# Altium schematic symbol library SEMATIK_LIB.SchLib: 632 symbols (part 4 of 21)
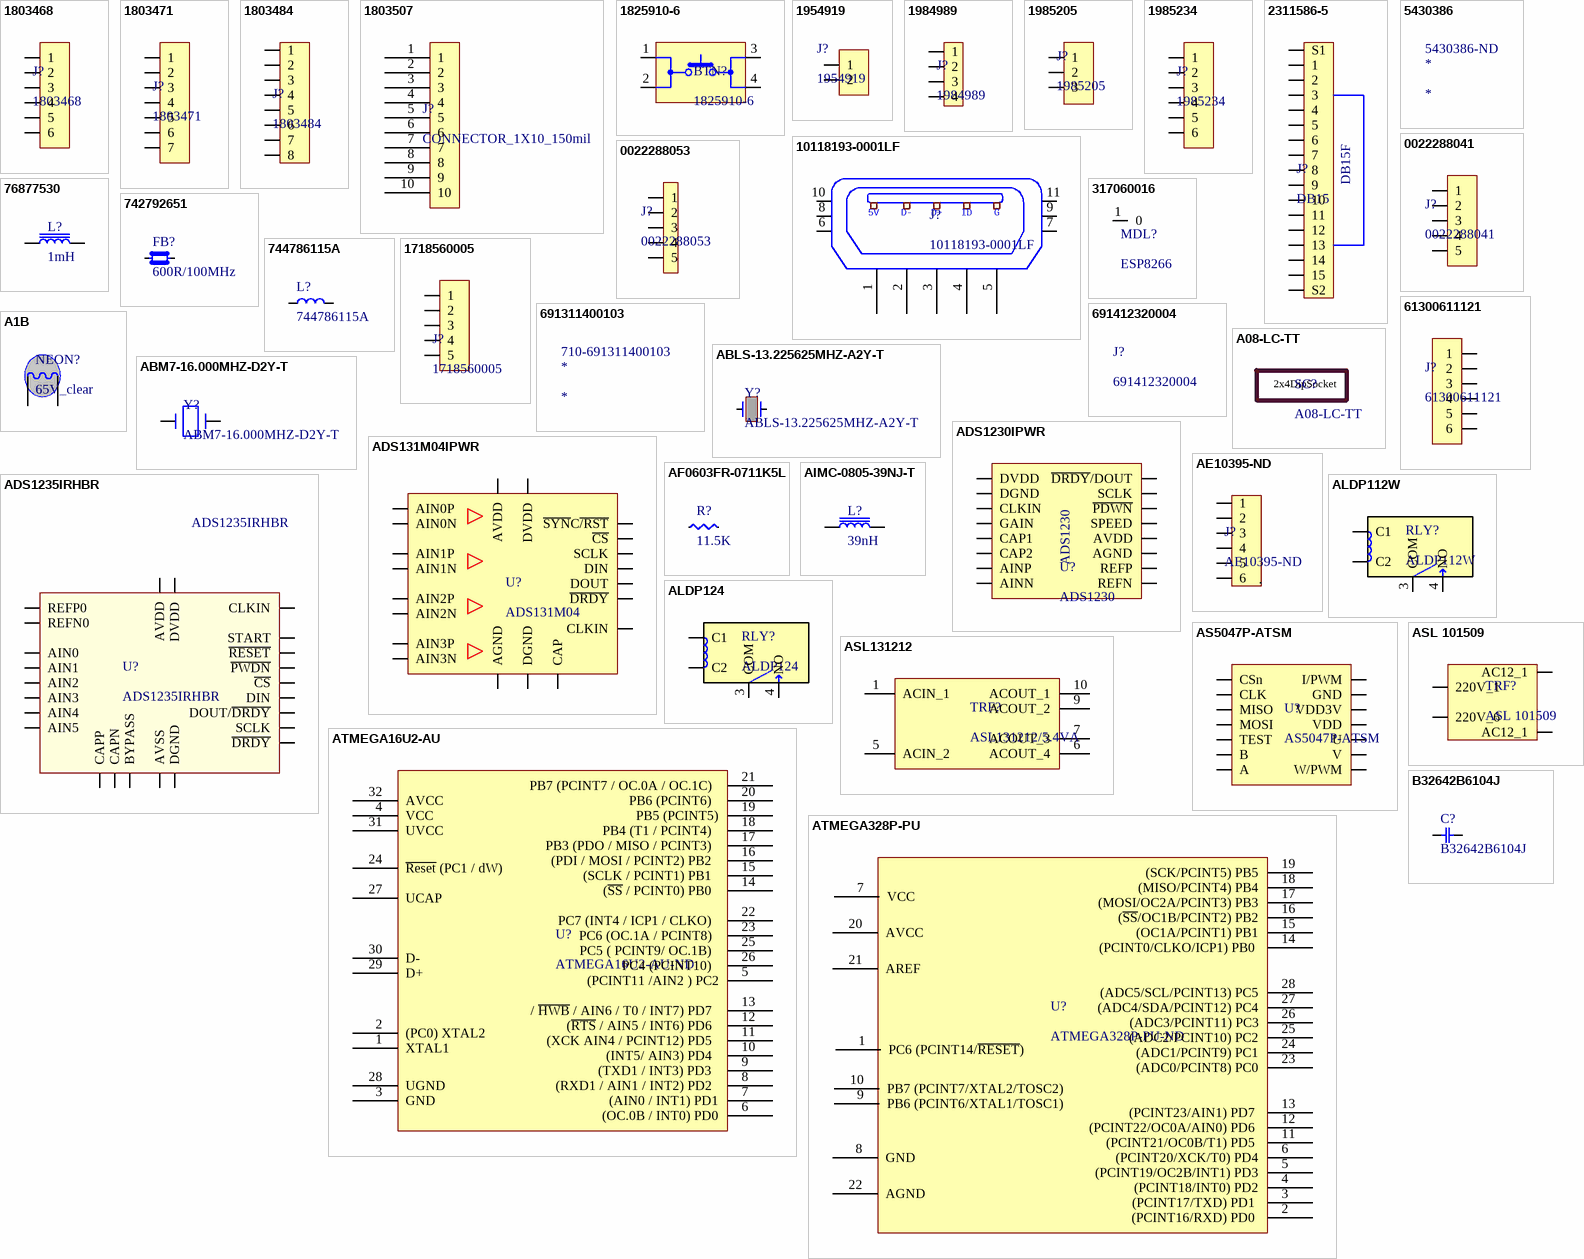
[diagram p19: symbols 1803468 to B32642B6104J]

## 1985234
designator J?
TERM BLOCK 6POS 3.5MM 45DEG PCB SCREWLESS; Manufacturer: Phoenix Contact; Current Rating: 2A; Voltage Rating: 250V; Number of Poles: 6; Number of Levels: 1; Voltage: 300V; Wire Gauge (Max): 24AWG; Wire Gauge (Min): 20AWG; Wire/Cable Gauge: 16AWG; Stripping Length: 8mm; Approvals: UL,VDE; Supplier 1: Digi-Key; Manufacturer Part Number: 1985234; Stock 1: 2152; Pricing 1: 1=0.85, 10=0.809, 50=0.7864, 100=0.735, 250=0.6762, 500=0.62476 (USD); Mount: Through Hole; Weight: 0.116404oz; Color: Green; Material: Nylon; Housing Color: Green; Housing Material: Nylon; Insulation Material: Nylon; Packaging: Bulk; Package Quantity: 100; Max Current Rating: 2A; Number of Positions: 6; Termination: Screwless; Number of Positions Per Level: 6; Current: 2A; Number of Contacts: 6; Number of Circuits: 6; Number of Rows: 1; Length: 12mm; Height: 13.1mm; Width: 17.5mm; Pitch: 3.5mm; Lead Free: Lead Free; Flammability Rating: UL94 V-2; REACH SVHC: Unknown; ComponentLink1URL: https://www.alliedelec.com/m/d/46afd96412b1b8fa400ea99294e4d68a.pdf?src-supplier=Allied+Electronics; ComponentLink1Description: https://www.alliedelec.com/m/d/46afd96412b1b8fa400ea99294e4d68a.pdf?src-supplier=Allied+Electronics; ComponentLink2URL: https://media.digikey.com/pdf/Data%20Sheets/Phoenix%20Contact%20PDFs/COMBICON%20Spring-Cage%20PCB%20Term.%20Blocks.pdf?src-supplier=Digi-Key; ComponentLink2Description: https://media.digikey.com/pdf/Data%20Sheets/Phoenix%20Contact%20PDFs/COMBICON%20Spring-Cage%20PCB%20Term.%20Blocks.pdf?src-supplier=Digi-Key; ComponentLink3URL: https://produktinfo.conrad.com/datenblaetter/725000-749999/744007-da-01-en-PRINTKLEMME_PTSA_1_5__6_3_5_Z.pdf?src-supplier=Conrad; ComponentLink3Description: https://produktinfo.conrad.com/datenblaetter/725000-749999/744007-da-01-en-PRINTKLEMME_PTSA_1_5__6_3_5_Z.pdf?src-supplier=Conrad; Supplier Part Number 1: 277-1626-ND
footprint SOCKET_3.5_1X6_45_SCREWLESS
pins: 1, 2, 3, 4, 5, 6

## 2311586-5
designator J?, comment DB15
CONN DSUB HD RCPT 15POS R/A SLDR; Manufacturer: TE Connectivity AMP; Manufacturer Part Number: 2311586-5; Supplier 1: Digi-Key; Stock 1: 2239; Pricing 1: 1 = 5,76000, 10 = 5,52500, 25 = 5,06480, 50 = 4,83480, 100 = 4,60450, 250 = 4,02896, 500 = 3,91384, 1000 = 3,33828, 2500 = 3,10805 (USD); RoHS: No; Supplier Part Number 1: A144832-ND
footprint HD22
pins: 1, 2, 3, 4, 5, 6, 7, 8, 9, 10, 11, 12, 13, 14, 15, 16 S1, 17 S2
text: DB15F

## 5430386
designator *  Supplier Part Number 1: 5430386-ND
Fixed Terminal Blocks BC-508X14- 2; Manufacturer 1: Phoenix Contact; Manufacturer Part Number 1: 5430386; Number of Levels: 1; Number of Positions Per Level: 2; Current: 15A; Voltage: 300V; Wire Gauge (Max): 30AWG; Wire Gauge (Min): 14AWG; Pitch: 0.2inch; Supplier 1: Digi-Key; Description 1: Fixed Terminal Blocks BC-508X14- 2; Stock 1: 0; Pricing 1: 100=1.113 (USD); Mount: Through Hole; Color: Grey; Housing Material: Nylon; Packaging: Bulk; Package Quantity: 100; Termination: Screw

## 10118193-0001LF
designator J?
CONN USB MICRO B RECPT SMT R/A; Manufacturer: Amphenol FCI; Connector Type: USB - micro B; Number of Contacts: 5; Gender: Receptacle; Specifications: USB 2.0; Current Rating: 1.8A per Contact; Voltage - Rated: 100VAC; Mating Cycles: 10000; Shielding: Shielded; Material Flammability Rating: UL94 V-0; Supplier 1: Digi-Key; Manufacturer Part Number: 10118193-0001LF; RoHS: RoHS Compliant; Category: Connectors, Interconnects; Stock 1: 77747; Pricing 1: 1=0.46, 10=0.437, 25=0.3744, 50=0.318, 100=0.3056, 250=0.27444, 500=0.26196 (USD); Packaging: Cut Tape (CT); Part Status: Active; Mounting Type: Surface Mount, Right Angle; Through Hole; Mounting Feature: Horizontal; Termination: Solder; Features: Solder Retention; Ingress Protection: -; Operating Temperature: -30°C ~ 80°C; Contact Finish: Gold; Shell/Shielding Material: Steel, Stainless; Insulation Color: Black; ComponentLink1URL: http://portal.fciconnect.com/Comergent//fci/drawing/10118193.pdf; ComponentLink1Description: http://portal.fciconnect.com/Comergent//fci/drawing/10118193.pdf; Supplier Part Number 1: 609-4616-1-ND
footprint 10118193-0001LF
pins: 1, 2, 3, 4, 5, 6, 7, 8, 9, 10, 11
text: 5V; D-; D+; ID; G

## 0022288041
designator J?
CONN HEADER 4POS 2.54MM R/A; Manufacturer: Molex; Gender: Male; Voltage Rating (DC): 250V; Number of Circuits: 4; Current Rating: 4A; Connector Type: Male Pin; Pitch: 0.1inch; Glow Wire Compliant: Non-compliant; Supplier 1: Digi-Key; Manufacturer Part Number: 0022288041; Stock 1: 1112; Pricing 1: 1 = 0,34000, 10 = 0,32200, 25 = 0,27640, 50 = 0,23480, 100 = 0,22560, 250 = 0,20256, 500 = 0,19336 (USD); RoHS: Yes; Mount: Through Hole; Housing Color: Black; Color: Black; Contact Material: Brass; Contact Plating: Tin; Housing Material: Thermoplastic; Orientation: Right Angle; Number of Contacts: 4; Number of Positions: 4; Termination: Solder; Package Quantity: 1; Number of Rows: 1; Packaging: Bulk; Voltage Rating: 250V; Contact Mating Length: 0.324inch; Lead Free: Lead Free; Flammability Rating: UL94 V-0; ComponentLink1URL: https://datasheet.ciiva.com/10090/0022288041-pcb-headers-10090135.pdf?src-supplier=Avnet; ComponentLink1Description: https://datasheet.ciiva.com/10090/0022288041-pcb-headers-10090135.pdf?src-supplier=Avnet; ComponentLink2URL: https://datasheet.ciiva.com/6859/022288041-sd-6859126.pdf?src-supplier=Digi-Key; ComponentLink2Description: https://datasheet.ciiva.com/6859/022288041-sd-6859126.pdf?src-supplier=Digi-Key; Supplier Part Number 1: WM50025-04-ND
footprint HDR_MALE_1x5_100mil_90DRC
pins: 1, 2, 3, 4, 5

## 0022288053
designator J?
CONN HEADER 5POS 2.54MM R/A; Manufacturer: Molex; Number of Positions: 5; Gender: Male; Connector Type: Male Pin; Contact Resistance: 20mR; Max Voltage Rating (AC): 250V; Pitch: 0.1inch; Supplier 1: Digi-Key; Manufacturer Part Number: 0022288053; RoHS: Yes; Category: Headers and Wire Housings; Stock 1: 939; Pricing 1: 1=0,44000, 10=0,36000, 100=0,26400 (USD); Mount: Through Hole; Contact Material: Brass; Color: Black; Housing Color: Black; Housing Material: Thermoplastic; Contact Plating: Gold; Min Operating Temperature: 0°C; Max Operating Temperature: 75°C; Packaging: Bulk; Number of Rows: 1; Termination: Solder; Number of Contacts: 5; Orientation: Right Angle; Series: KK® 42377; Contact Type: Male Pin; Length: 12.7mm; Contact Mating Length: 0.324inch; Depth: 12.3mm; RoHS Compliant: Yes; ComponentLink1URL: https://datasheet.ciiva.com/6839/022289022-sd-6839452.pdf?src-supplier=Digi-Key; ComponentLink1Description: https://datasheet.ciiva.com/6839/022289022-sd-6839452.pdf?src-supplier=Digi-Key; Supplier Part Number 1: WM50026-05-ND
pins: 1, 2, 3, 4, 5

## 76877530
designator L?, comment 1mH
FIXED IND mH 1 300MA 3.3 OHM SMD; Manufacturer: Wurth Electronics; Manufacturer Part Number: 76877530; Core Material: Ferrite; Tolerance: 10%; Shielding: Unshielded; DC Resistance (DCR): 3.3R; Self Resonant Frequency: 2.4MHz; Test Frequency: 100kHz; Supplier 1: Digi-Key; Stock 1: 1085; Pricing 1: 1 = 2,22000, 10 = 2,04600, 50 = 1,83500, 100 = 1,76400, 250 = 1,69300 (USD); RoHS: Yes; Mount: Surface Mount; Case/Package: 7850; Min Operating Temperature: -40°C; Max Operating Temperature: 125°C; Saturation Current: 300mA; Packaging: Cut Tape; Package Quantity: 500; Current Rating: 300mA; Inductance Tolerance: 10%; Resistor Type: Wirewound; Inductance: 1mH; Max DC Current: 300mA; Termination: SMD/SMT; RMS Current (Irms): 300mA; Length: 0.307inch; Width: 0.276inch; Height: 5mm; Height - Seated (Max): 0.217inch; REACH SVHC: Unknown; ComponentLink1URL: https://datasheet.ciiva.com/6690/76877530-6690354.pdf?src-supplier=Digi-Key; ComponentLink1Description: https://datasheet.ciiva.com/6690/76877530-6690354.pdf?src-supplier=Digi-Key; ComponentLink2URL: https://datasheet.ciiva.com/13320/76877530-64988-13320676.pdf?src-supplier=Mouser; ComponentLink2Description: https://datasheet.ciiva.com/13320/76877530-64988-13320676.pdf?src-supplier=Mouser; ComponentLink3URL: https://datasheet.ciiva.com/7892/1736809-7892998.pdf?src-supplier=Element14; ComponentLink3Description: https://datasheet.ciiva.com/7892/1736809-7892998.pdf?src-supplier=Element14; ComponentLink4URL: https://datasheet.ciiva.com/7265/1243443-7265530.pdf?src-supplier=Newark; ComponentLink4Description: https://datasheet.ciiva.com/7265/1243443-7265530.pdf?src-supplier=Newark; ComponentLink5URL: https://datasheet.ciiva.com/6690/76877530-6690358.pdf?src-supplier=Digi-Key; ComponentLink5Description: https://datasheet.ciiva.com/6690/76877530-6690358.pdf?src-supplier=Digi-Key; Supplier Part Number 1: 732-3272-6-ND
footprint INDUCTOR_7.8x7.0x5
pins: 1, 2

## 317060016
designator MDL?, comment ESP8266
ESP8266 MOD TXRX WIFI TRACE ANT; Manufacturer: Seeed Studio; Manufacturer Part Number: 317060016; Supplier 1: Digi-Key; Stock 1: 196; Pricing 1: 1 = 7,09000 (USD); RoHS: No; Case/Package: Module; Weight: 0.0625lb; Length: 3.25inch; Width: 2.25inch; Height: 0.25inch; ComponentLink1URL: https://media.digikey.com/pdf/Data%20Sheets/Seeed%20Technology/317060016_Web.pdf?src-supplier=Digi-Key; ComponentLink1Description: https://media.digikey.com/pdf/Data%20Sheets/Seeed%20Technology/317060016_Web.pdf?src-supplier=Digi-Key; Supplier Part Number 1: 1597-1145-ND
pins: 1 0

## 742792651
designator FB?, comment 600R/100MHz
FERRITE BEAD 600 OHM 100MHz 0603 1LN
footprint FERRITEBEAD_0603
pins: 1, 2

## 744786115A
designator L?
High Frequency Inductor, WE-MK Series, 15 nH,  5%, 0603 [1608 Metric], 2.3 GHz; Manufacturer 1: Wurth Electronics; Description 1: WURTH ELEKTRONIK         744786115A            Surface Mount High Frequency Inductor, WE-MK Series, 15 nH,  5%, 0603 [1608 Metric], 2.3 GHz; Core Material: Ceramic; Inductance: 15nH; Current Rating: 500mA; Shielding: Unshielded; DC Resistance (DCR): 500mR; Self Resonant Frequency: 2.3GHz; Test Frequency: 100MHz; Supplier 1: Digi-Key; Manufacturer Part Number 1: 744786115A; Stock 1: 5783; Pricing 1: 1=0.2, 50=0.185, 100=0.174, 500=0.157, 1000=0.134, 2000=0.106 (USD); Mount: Surface Mount; Case/Package: 0603; Case Code (Metric): 1608; Case Code (Imperial): 0603; Min Operating Temperature: -55°C; Max Operating Temperature: 125°C; Inductance Tolerance: 5%; Packaging: Cut Tape; Max DC Current: 500mA; Tolerance: 5%; Length: 0.063inch; Width: 0.031inch; Height - Seated (Max): 0.037inch; REACH SVHC: Unknown; ComponentLink1URL: http://www.farnell.com/datasheets/1818771.pdf?src-supplier=Element14; ComponentLink1Description: http://www.farnell.com/datasheets/1818771.pdf?src-supplier=Element14; ComponentLink2URL: https://katalog.we-online.de/pbs/datasheet/744786115A.pdf?src-supplier=Digi-Key; ComponentLink2Description: https://katalog.we-online.de/pbs/datasheet/744786115A.pdf?src-supplier=Digi-Key; ComponentLink3URL: http://www.farnell.com/datasheets/1818771.pdf?src-supplier=Farnell; ComponentLink3Description: http://www.farnell.com/datasheets/1818771.pdf?src-supplier=Farnell; Supplier Part Number 1: 732-6265-1-ND
footprint R_0603
pins: 1, 2

## 1718560005
designator J?
RECEPTACLE PCB 5POS 2.54mm MALE 180DEG; Manufacturer 1: Molex; Description 1: Headers & Wire Housings KK Hdr Vrt 5 Ckt 2.54mm Pitch Sn; Current Rating: 4A; Voltage Rating: 250V; Number of Positions: 5; Connector Type: Male Pin; Contact Post Length: 2.34mm; Glow Wire Compliant: Compliant; Supplier 1: Digi-Key; Manufacturer Part Number 1: 1718560005; Stock 1: 10042; Pricing 1: 1=0.45, 10=0.425, 100=0.2972, 500=0.25474, 1000=0.21228, 5000=0.18195, 10000=0.16982 (USD); Mount: Through Hole; Weight: 0.02oz; Color: Black; Contact Plating: Tin; Contact Material: Brass; Housing Material: Nylon; Min Operating Temperature: -40°C; Max Operating Temperature: 105°C; Fastening Type: Friction; Number of Rows: 1; Contact Gender: Male; Packaging: Bulk; Package Quantity: 2000; Termination: Solder; Orientation: Vertical; Number of Circuits: 5; Pitch: 2.54mm; Contact Mating Length: 0.293inch; Halogen Free: Low Halogen; Flammability Rating: UL94 V-2; ComponentLink1URL: https://media.digikey.com/pdf/Data%20Sheets/Molex%20PDFs/171856,57_Brief.pdf?src-supplier=Digi-Key; ComponentLink1Description: https://media.digikey.com/pdf/Data%20Sheets/Molex%20PDFs/171856,57_Brief.pdf?src-supplier=Digi-Key; ComponentLink2URL: http://www.mouser.com/ds/2/276/1718560005_PCB_HEADERS-295428.pdf?src-supplier=Mouser; ComponentLink2Description: http://www.mouser.com/ds/2/276/1718560005_PCB_HEADERS-295428.pdf?src-supplier=Mouser; Supplier Part Number 1: WM10183-ND
footprint 1x5_100mil_Header_programmer_no3d
pins: 1, 2, 3, 4, 5

## 61300611121
designator J?
CONN HEADER 6POS 2.54MM VERT; Manufacturer: Wurth Electronics; Current Rating: 3A; Voltage Rating: 250V; Number of Positions: 6; Gender: Male; Connector Type: Male Pin; Pitch: 0.1inch; Supplier 1: Digi-Key; Manufacturer Part Number: 61300611121; Stock 1: 20332; Pricing 1: 1 = 0,33000, 10 = 0,27900, 25 = 0,23200, 50 = 0,19400, 100 = 0,17600, 1000 = 0,16000 (USD); RoHS: Yes; Mount: Through Hole; Contact Plating: Gold; Contact Material: Copper Alloy,Copper; Housing Material: PBT; Color: Black; Min Operating Temperature: -40°C; Max Operating Temperature: 125°C; Number of Rows: 1; Contact Gender: Male; Packaging: Bulk; Termination: Through Hole; Number of Contacts: 6; Contact Mating Length: 0.236inch; REACH SVHC: Unknown; Lead Free: Lead Free; ComponentLink1URL: http://www.mouser.com/ds/2/445/6130xx11121-538006.pdf?src-supplier=Mouser; ComponentLink1Description: http://www.mouser.com/ds/2/445/6130xx11121-538006.pdf?src-supplier=Mouser; ComponentLink2URL: https://katalog.we-online.de/em/datasheet/6130xx11121.pdf?src-supplier=Digi-Key; ComponentLink2Description: https://katalog.we-online.de/em/datasheet/6130xx11121.pdf?src-supplier=Digi-Key; ComponentLink3URL: http://www.farnell.com/cad/1737268.pdf?src-supplier=Element14; ComponentLink3Description: http://www.farnell.com/cad/1737268.pdf?src-supplier=Element14; Supplier Part Number 1: 732-5319-ND
footprint HDR_MALE_1x6_100mil
pins: 1, 2, 3, 4, 5, 6

## 691311400103
designator *  Supplier Part Number 1: 710-691311400103
7.62mm Pitch Straight Pluggable Term Block; PCB Header; Through Hole; 3 Way; Manufacturer: Würth Elektronik; Manufacturer Part Number 1: 691311400103; Number of Contacts: 3; Number of Levels: 1; Current: 20A; Voltage: 300V; Pitch: 0.3inch; Supplier 1: Mouser; Description 1: 7.62mm Pitch Straight Pluggable Term Block; PCB Header; Through Hole; 3 Way; Stock 1: 464; Pricing 1: 1 = 0,69000, 10 = 0,61600, 50 = 0,53200, 100 = 0,47600, 1000 = 0,39900, 10000 = 0,39900 (USD); Mount: Through Hole; Color: Green; Contact Material: Brass; Package Quantity: 300; Termination: Solder; Packaging: Bulk; Number of Positions Per Level: 3; Number of Rows: 1; Orientation: Vertical; Length: 8.5mm; Height: 16mm; Width: 22.86mm; REACH SVHC: Unknown; ComponentLink1URL: http://www.produktinfo.conrad.com/datenblaetter/1000000-1099999/001088632-da-01-en-WR_TBL_TERMINAL_BLOCK3114_691311400103.pdf; ComponentLink1Description: http://www.produktinfo.conrad.com/datenblaetter/1000000-1099999/001088632-da-01-en-WR_TBL_TERMINAL_BLOCK3114_691311400103.pdf; ComponentLink2URL: http://datasheet.octopart.com/691311400103-W%C3%BCrth-Elektronik-Midcom-datasheet-10403950.pdf; ComponentLink2Description: http://datasheet.octopart.com/691311400103-W%C3%BCrth-Elektronik-Midcom-datasheet-10403950.pdf; ComponentLink3URL: http://datasheet.octopart.com/691311400103-W%C3%BCrth-Elektronik-datasheet-12532410.pdf; ComponentLink3Description: http://datasheet.octopart.com/691311400103-W%C3%BCrth-Elektronik-datasheet-12532410.pdf; ComponentLink4URL: http://datasheet.octopart.com/691311400103-W%C3%BCrth-Elektronik-Midcom-datasheet-10380140.pdf; ComponentLink4Description: http://datasheet.octopart.com/691311400103-W%C3%BCrth-Elektronik-Midcom-datasheet-10380140.pdf

## 691412320004
designator J?
TERM BLOCK 4POS 45DEG 3.81MM; Manufacturer 1: Wurth Electronics; Supplier 1: Digi-Key; Manufacturer Part Number 1: 691412320004; Stock 1: 213; Pricing 1: 1=1.22, 10=1.07, 50=0.97, 100=0.87, 500=0.82 (USD); Supplier Part Number 1: 732-11129-ND

## A1B
designator NEON?, comment 65V_clear
LAMP NEON R6.2MM WIR 65VAC 90VDC; Manufacturer: VCC CHML; Manufacturer Part Number: A1B; Lens Color: Clear; Voltage Rating (DC): 90V; Current Rating: 300uA; Voltage Rating (AC): 65V; Lead/Base Style: Wire Terminal; Life (Hours): 25000Hour; Power Rating: 250mW; Supplier 1: Digi-Key; Stock 1: 6365; Pricing 1: 1 = 0,72000, 10 = 0,47500, 100 = 0,31390, 1000 = 0,24236, 2000 = 0,21900, 5000 = 0,20440, 10000 = 0,19710, 25000 = 0,19418 (USD); RoHS: Yes; Case/Package: 100; Color: Clear; Package Quantity: 200; Packaging: Bulk; Operating Supply Current: 300uA; Length: 0.5inch; REACH SVHC: Unknown; ComponentLink1URL: https://datasheet.ciiva.com/24361/neon20indicator20lamps-7-8-24361296.pdf?src-supplier=Onlinecomponents.com; ComponentLink1Description: https://datasheet.ciiva.com/24361/neon20indicator20lamps-7-8-24361296.pdf?src-supplier=Onlinecomponents.com; ComponentLink2URL: https://datasheet.ciiva.com/6354/neonindicatorlamps-7-8-6354586.pdf?src-supplier=Digi-Key; ComponentLink2Description: https://datasheet.ciiva.com/6354/neonindicatorlamps-7-8-6354586.pdf?src-supplier=Digi-Key; Supplier Part Number 1: A1B-ND
footprint NEON_LAMB_65V
pins: 1, 2

## A08-LC-TT
designator SC?
CONN IC DIP SOCKET 8POS TIN; Manufacturer 1: Assmann; Description 1: ASSMANN WSW 2.54mm Pitch Vertical 8 Way, Through Hole Stamped Pin Open Frame IC Dip Socket, 1A; Current Rating: 1A; Contact Resistance: 30mR; Voltage Rating: 60V; Number of Contacts: 8; Insulation Resistance: 1GR; Contact Post Length: 0.124inch; Pitch: 2.54mm; Row Spacing: 7.62mm; Supplier 1: Digi-Key; Manufacturer Part Number 1: A08-LC-TT; Stock 1: 38371; Pricing 1: 1=0.18, 10=0.173, 25=0.1472, 60=0.12883, 120=0.11958, 300=0.1058, 540=0.1012, 1020=0.0828, 2520=0.0759 (USD); Mount: Through Hole; Number of Pins: 8; Housing Material: PBT; Contact Material: Bronze; Contact Plating: Tin; Material: PBT; Insulation Material: Polybutylene; Min Operating Temperature: -55°C; Max Operating Temperature: 85°C; Package Quantity: 60; Packaging: Rail/Tube; Number of Rows: 2; Termination: Solder; Orientation: Straight; Length: 10.16mm; Width: 10.16mm; Depth: 9.96mm; Radiation Hardening: No; Lead Free: Lead Free; Flammability Rating: UL94 V-0; ComponentLink1URL: http://www.assmann-wsw.com/fileadmin/datasheets/ASS_0810_CO.pdf?src-supplier=Digi-Key; ComponentLink1Description: http://www.assmann-wsw.com/fileadmin/datasheets/ASS_0810_CO.pdf?src-supplier=Digi-Key; ComponentLink2URL: https://www.verical.com/server-webapp/html/getDatasheet?partID=755679&src-supplier=Verical; ComponentLink2Description: https://www.verical.com/server-webapp/html/getDatasheet?partID=755679&src-supplier=Verical; ComponentLink3URL: https://produktinfo.conrad.com/datenblaetter/175000-199999/183799-da-01-en-ST_IC_FASSUNG_8POL_7_62A_08_LC_TT.pdf?src-supplier=Conrad; ComponentLink3Description: https://produktinfo.conrad.com/datenblaetter/175000-199999/183799-da-01-en-ST_IC_FASSUNG_8POL_7_62A_08_LC_TT.pdf?src-supplier=Conrad; Supplier Part Number 1: AE9986-ND
text: 2x4DipSocket

## ABLS-13.225625MHZ-A2Y-T
designator Y?
CRYSTAL 13.225625MHZ 18PF SMD; Manufacturer 1: Abracon; ESR (Equivalent Series Resistance): 50R; Frequency Stability: 30ppm; Frequency Tolerance: 20ppm; Supplier 1: Digi-Key; Manufacturer Part Number 1: ABLS-13.225625MHZ-A2Y-T; Description 1: CRYSTAL 13.225625MHZ 18PF SMD; Stock 1: 555; Pricing 1: 1=0.69, 10=0.607, 50=0.5676, 100=0.5016, 500=0.4752 (USD); Mount: Surface Mount; Min Operating Temperature: -10°C; Max Operating Temperature: 60°C; Packaging: Tape and Reel; Frequency: 13.225625MHz; Load Capacitance: 18pF; Length: 0.449inch; Height: 0.165inch; Width: 0.185inch; Lead Free: Lead Free; ComponentLink1URL: http://www.abracon.com/Resonators/abls.pdf?src-supplier=Digi-Key; ComponentLink1Description: http://www.abracon.com/Resonators/abls.pdf?src-supplier=Digi-Key; Supplier Part Number 1: 535-13434-1-ND
footprint ABLS_13.255
pins: 1, 2

## ABM7-16.000MHZ-D2Y-T
designator Y?
CRYSTAL 16.0000MHZ 18PF SMD; Manufacturer: Abracon LLC; Frequency Stability: ±30ppm; Frequency Tolerance: ±20ppm; Operating Mode: Fundamental; Supplier 1: Digi-Key; Manufacturer Part Number: ABM7-16.000MHZ-D2Y-T; RoHS: RoHS Compliant; Category: Crystals, Oscillators, Resonators; Stock 1: 19215; Pricing 1: 1=0.72, 10=0.633, 50=0.5912, 100=0.5225, 500=0.495 (USD); Packaging: Cut Tape (CT); Part Status: Active; Type: MHz Crystal; Load Capacitance: 18pF; Operating Temperature: -40°C ~ 85°C; Ratings: -; Mounting Type: Surface Mount; Package / Case: 2-SMD, No Lead; Size / Dimension: 0.236" L x 0.138" W (6.00mm x 3.50mm); Height - Seated (Max): 0.055" (1.40mm); ComponentLink1URL: http://www.abracon.com/Resonators/abm7.pdf; ComponentLink1Description: http://www.abracon.com/Resonators/abm7.pdf; Supplier Part Number 1: 535-9840-1-ND
footprint ABM7_v1_1_BIG
pins: 1, 2

## ADS131M04IPWR
designator U?, comment ADS131M04
IC ADC 24BIT SIGMA-DELTA 20TSSOP; Manufacturer: Texas Instruments; Manufacturer Part Number: ADS131M04IPWR; Manufacturer Lifecycle Status: ACTIVE; Interface: SPI; Max Junction Temperature (Tj): 150°C; Max Supply Voltage: 3.6V; Min Supply Voltage: 2.7V; Number of Channels: 4; Sampling Rate: 32ksps; Supplier: Mouser; Supplier Part Number: 595-ADS131M04IPWR; RoHS: Compliant; Category: Analog to Digital Converters (ADCs); Stock: 5037; Pricing: 1=6, 10=4,59, 50=4,24, 100=3,86, 1000=3,47, 10000=3,38 (USD); Ambient Temperature Range High: 125°C; Case/Package: TSSOP; Height: 0m; Length: 6.5mm; Lifecycle Status: Production; Max Operating Temperature: 125°C; Min Operating Temperature: -40°C; Number of Converters: 4; Pins: 20; Thickness: 1mm; Width: 4.4mm; ComponentLink1URL: https://sigma.octopart.com:443/157851284/technical_drawing/Texas-Instruments-ADS131M04IPWR.pdf?src-supplier=Texas+Instruments; ComponentLink1Description: https://sigma.octopart.com:443/157851284/technical_drawing/Texas-Instruments-ADS131M04IPWR.pdf?src-supplier=Texas+Instruments; ComponentLink2URL: https://octopart.com:443/opatz8j6/c1?t=MGkJAgdv2a6X8tMdF6DoPMtBtZTgvBnIfCFzCsejiKS2VOFUDMoXqX6zH7fz-_6HVmkb5Hy437gbVtwPXcrkVv7PYQVgBdyWJ_9SqMirpyVN7uMFsqcdZ-YwDLD24xVyOtSQNNpNIjZxwE2if3VpQgoSBc756CdZMFsN543ovgtzlW11Bp39eVl8j6vDT4g1klXr3w6VK7D9w7k04t_Wy7AZQ0qz8DYpPmMXKfPLO0wK2QYEvXNQqxeHdKx9q8hAHoK8AG6MF1yGoBfNHQz-DBthm0OducbygS_G0odVQGiVOqntu8Tpzv9UFTdqC1d42Zh0yGtBnbAYKdScfUZG-SzOL7Xvd0AE338erXJaqcoCMcp0y0MgSeMk0aegRcjqY3OVij0x2A&src-supplier=Texas+Instruments; ComponentLink2Description: https://octopart.com:443/opatz8j6/c1?t=MGkJAgdv2a6X8tMdF6DoPMtBtZTgvBnIfCFzCsejiKS2VOFUDMoXqX6zH7fz-_6HVmkb5Hy437gbVtwPXcrkVv7PYQVgBdyWJ_9SqMirpyVN7uMFsqcdZ-YwDLD24xVyOtSQNNpNIjZxwE2if3VpQgoSBc756CdZMFsN543ovgtzlW11Bp39eVl8j6vDT4g1klXr3w6VK7D9w7k04t_Wy7AZQ0qz8DYpPmMXKfPLO0wK2QYEvXNQqxeHdKx9q8hAHoK8AG6MF1yGoBfNHQz-DBthm0OducbygS_G0odVQGiVOqntu8Tpzv9UFTdqC1d42Zh0yGtBnbAYKdScfUZG-SzOL7Xvd0AE338erXJaqcoCMcp0y0MgSeMk0aegRcjqY3OVij0x2A&src-supplier=Texas+Instruments; ComponentLink3URL: https://sigma.octopart.com:443/49249835/technical_drawing/Texas-Instruments-ADS131M04IPWR.pdf?src-supplier=Texas+Instruments; ComponentLink3Description: https://sigma.octopart.com:443/49249835/technical_drawing/Texas-Instruments-ADS131M04IPWR.pdf?src-supplier=Texas+Instruments; ComponentLink4URL: https://datasheet.octopart.com:443/ADS131M04IPWR-Texas-Instruments-datasheet-153505846.pdf?src-supplier=Upverter; ComponentLink4Description: https://datasheet.octopart.com:443/ADS131M04IPWR-Texas-Instruments-datasheet-153505846.pdf?src-supplier=Upverter; ComponentLink5URL: https://datasheet.octopart.com:443/ADS131M04IPWR-Texas-Instruments-datasheet-163736063.pdf?src-supplier=LCSC; ComponentLink5Description: https://datasheet.octopart.com:443/ADS131M04IPWR-Texas-Instruments-datasheet-163736063.pdf?src-supplier=LCSC; ComponentLink6URL: http://sigma.octopart.com:80/conflict_mineral_statement/Texas-Instruments-company-63.pdf?src-supplier=Compliance+Statements; ComponentLink6Description: http://sigma.octopart.com:80/conflict_mineral_statement/Texas-Instruments-company-63.pdf?src-supplier=Compliance+Statements; ComponentLink7URL: http://sigma.octopart.com:80/reach_statement/Texas-Instruments-company-64.pdf?src-supplier=Compliance+Statements; ComponentLink7Description: http://sigma.octopart.com:80/reach_statement/Texas-Instruments-company-64.pdf?src-supplier=Compliance+Statements
footprint TSSOP20
pins: 1 AVDD, 2 AGND, 3 AIN0P, 4 AIN0N, 5 AIN1P, 6 AIN1N, 7 AIN2P, 8 AIN2N, 9 AIN3P, 10 AIN3N, 11 ~{SYN}C~{/RST}, 12 ~{CS}, 13 ~{DRDY}, 14 SCLK, 15 DOUT, 16 DIN, 17 CLKIN, 18 CAP, 19 DGND, 20 DVDD

## ADS1230IPWR
designator U?, comment ADS1230
IC ADC 20BIT SIGMA-DELTA 16TSSOP; Manufacturer: Texas Instruments; Manufacturer Part Number: ADS1230IPWR; Interface: SPI; Number of Inputs: 1; Power Consumption: 2.9mW; Operating Supply Voltage: 5V; Min Supply Voltage: 2.7V; Max Supply Voltage: 5.3V; Max Power Dissipation: 7.7mW; Number of Bits: 20; Sampling Rate: 80S/s; Resolution: 20b; Polarity: Bipolar; Conversion Rate: 0.08KS/s; Nominal Supply Current: 900uA; Supply Type: Analog,Digital; Differential Nonlinearity: 1LSB; Input Type: DIFFERENTIAL; Supplier 1: Digi-Key; RoHS: Yes; Category: Analog to Digital Converters (ADCs); Stock 1: 3976; Pricing 1: 1=7,21000, 10=6,50900, 25=6,20600, 100=5,38870, 250=5,14652, 500=4,69240, 1000=4,28400 (USD); Mount: Surface Mount; Case/Package: TSSOP; Number of Pins: 16; Contact Plating: Gold; Min Operating Temperature: -40°C; Max Operating Temperature: 85°C; Packaging: Tape and Reel; Package Quantity: 2000; Number of Channels: 1; Number of A/D Converters: 1; Number of Converters: 1; Number of Elements: 1; Power Dissipation: 7.7mW; Number of Analog Inputs: 1; Lead Free: Lead Free; RoHS Compliant: Yes; ComponentLink1URL: https://datasheet.ciiva.com/41461/001186708-da-01-en-ic-adc-20-bit-1-ads1230ipwr-tssop-16-tid-41461050.pdf?src-supplier=Conrad; ComponentLink1Description: https://datasheet.ciiva.com/41461/001186708-da-01-en-ic-adc-20-bit-1-ads1230ipwr-tssop-16-tid-41461050.pdf?src-supplier=Conrad; ComponentLink2URL: https://datasheet.ciiva.com/1260/ads1230-1260781.pdf?src-supplier=Digi-Key; ComponentLink2Description: https://datasheet.ciiva.com/1260/ads1230-1260781.pdf?src-supplier=Digi-Key; ComponentLink3URL: https://datasheet.ciiva.com/1260/ads1230-1260780.pdf?src-supplier=Digi-Key; ComponentLink3Description: https://datasheet.ciiva.com/1260/ads1230-1260780.pdf?src-supplier=Digi-Key; ComponentLink4URL: https://datasheet.ciiva.com/1260/ads1230-1260782.pdf?src-supplier=Digi-Key; ComponentLink4Description: https://datasheet.ciiva.com/1260/ads1230-1260782.pdf?src-supplier=Digi-Key; ComponentLink5URL: https://datasheet.ciiva.com/4778/ads1231-4778013.pdf?src-supplier=Mouser; ComponentLink5Description: https://datasheet.ciiva.com/4778/ads1231-4778013.pdf?src-supplier=Mouser; ComponentLink6URL: https://datasheet.ciiva.com/3038/sbas366b-3038731.pdf?src-supplier=Avnet; ComponentLink6Description: https://datasheet.ciiva.com/3038/sbas366b-3038731.pdf?src-supplier=Avnet; Supplier Part Number 1: 296-25893-1-ND
footprint TSSOP16
pins: 1 DVDD, 2 DGND, 3 CLKIN, 4 GAIN, 5 CAP1, 6 CAP2, 7 AINP, 8 AINN, 9 REFN, 10 REFP, 11 AGND, 12 AVDD, 13 SPEED, 14 ~{PDWN}, 15 SCLK, 16 ~{DRDY}/DOUT

## ADS1235IRHBR
designator U?
IC ADC 24BIT SIGMA-DELTA 32VQFNP; Manufacturer: Texas Instruments; Manufacturer Lifecycle Status: ACTIVE; Supplier: Arrow Electronics; Manufacturer Part Number: ADS1235IRHBR; RoHS: Compliant; Category: Analog to Digital Converters (ADCs); Pricing: 3000=7,612, 6000=7,573, 9000=7,534, 12000=7,494, 15000=7,454, 21000=7,414, 24000=7,373, 30000=7,332, 75000=7,29 (USD); Case/Package: VQFN; Height: 1mm; Length: 5mm; Lifecycle Status: Production; Pins: 32; Thickness: 900µm; Width: 5mm; ComponentLink1URL: https://sigma.octopart.com:443/49249790/technical_drawing/Texas-Instruments-ADS1235IRHBR.pdf?src-supplier=Texas+Instruments; ComponentLink1Description: https://sigma.octopart.com:443/49249790/technical_drawing/Texas-Instruments-ADS1235IRHBR.pdf?src-supplier=Texas+Instruments; ComponentLink2URL: https://octopart.com:443/opatz8j6/c1?t=DtFcpm4d2nEQSjAYwv4gVjbpGTDZtjuSPgYXexlHLKEAp0bpq-Orc6F0FdzxJDoa-NfwrvtuG3wAMBSdHv0ZM3wdi2UfMPaAbzSeYt57c21kV7D5oR7FcMWhr0bLoIHxOeLusEEsBrEJOgbktnUu5o5PDdmCssc4splnif4udxiU1w9yld5mkRevmNoFQm6oIYPn_9Vr_D_DHYu576d6rfL9qNVOx0PQY37jZkR_WJyxFM5NGKAc25V7W8AYaus4jS64kfdyfJs-76MrxudrAnc9fNsiUBNvZtoe9jyhvNfgke1tnsikqtNtiZjT5Uii6QNt9EBJzoiwUxxdeLRPEiFRDOJDI14tDAOTzCUk09mBVgn_VRU2RjJTAFTAOvaJH8NQEg&src-supplier=Texas+Instruments; ComponentLink2Description: https://octopart.com:443/opatz8j6/c1?t=DtFcpm4d2nEQSjAYwv4gVjbpGTDZtjuSPgYXexlHLKEAp0bpq-Orc6F0FdzxJDoa-NfwrvtuG3wAMBSdHv0ZM3wdi2UfMPaAbzSeYt57c21kV7D5oR7FcMWhr0bLoIHxOeLusEEsBrEJOgbktnUu5o5PDdmCssc4splnif4udxiU1w9yld5mkRevmNoFQm6oIYPn_9Vr_D_DHYu576d6rfL9qNVOx0PQY37jZkR_WJyxFM5NGKAc25V7W8AYaus4jS64kfdyfJs-76MrxudrAnc9fNsiUBNvZtoe9jyhvNfgke1tnsikqtNtiZjT5Uii6QNt9EBJzoiwUxxdeLRPEiFRDOJDI14tDAOTzCUk09mBVgn_VRU2RjJTAFTAOvaJH8NQEg&src-supplier=Texas+Instruments; ComponentLink3URL: https://datasheet.octopart.com:443/ADS1235IRHBR-Texas-Instruments-datasheet-163657433.pdf?src-supplier=SHENGYU+ELECTRONICS; ComponentLink3Description: https://datasheet.octopart.com:443/ADS1235IRHBR-Texas-Instruments-datasheet-163657433.pdf?src-supplier=SHENGYU+ELECTRONICS; ComponentLink4URL: http://sigma.octopart.com:80/conflict_mineral_statement/Texas-Instruments-company-63.pdf?src-supplier=Compliance+Statements; ComponentLink4Description: http://sigma.octopart.com:80/conflict_mineral_statement/Texas-Instruments-company-63.pdf?src-supplier=Compliance+Statements; ComponentLink5URL: http://sigma.octopart.com:80/reach_statement/Texas-Instruments-company-64.pdf?src-supplier=Compliance+Statements; ComponentLink5Description: http://sigma.octopart.com:80/reach_statement/Texas-Instruments-company-64.pdf?src-supplier=Compliance+Statements; Supplier Part Number: ADS1235IRHBR
footprint VQFN-32-5x5
pins: 2 CAPP, 3 CAPN, 4 AVDD, 5 AVSS, 7 ~{PWDN}, 8 ~{RESET}, 9 START, 10 ~{CS}, 11 SCLK, 12 DIN, 13 ~{DRDY}, 14 DOUT/~{DRDY}, 15 BYPASS, 16 DGND, 17 DVDD, 18 CLKIN, 25 AIN5, 26 AIN4, 27 AIN3, 28 AIN2, 29 AIN1, 30 AIN0, 31 REFN0, 32 REFP0

## AE10395-ND
designator J?
CONN MOD JACK 6P6C VERT UNSHLD; Manufacturer: Assmann; Manufacturer Part Number: A-2014-1-4-N-T-R; Max Current Rating: 1.5A; Max Voltage Rating (AC): 120V; Shielding: Unshielded; Number of Ports: 1; Number of Contacts: 6; Gender: Female; Direction: User Selectable; Pitch: 2.54mm; Supplier 1: Digi-Key; Stock 1: 32247; Pricing 1: 1=0.65, 10=0.606, 25=0.5456, 50=0.4848, 110=0.46464, 330=0.42421, 550=0.404, 1100=0.3333, 2530=0.303 (USD); Mount: Through Hole; Contact Material: Bronze; Housing Material: PBT; Contact Plating: Gold; Min Operating Temperature: -40°C; Max Operating Temperature: 85°C; Package Quantity: 110; Number of Rows: 1; Packaging: Tray; Termination: Solder; Orientation: Vertical; Connector Type: Jack; Lead Free: Lead Free; ComponentLink1URL: http://www.assmann.us/specs/A-2014-1-4-N-T-R.pdf?src-supplier=Future+Electronics; ComponentLink1Description: http://www.assmann.us/specs/A-2014-1-4-N-T-R.pdf?src-supplier=Future+Electronics; ComponentLink2URL: http://www.assmann-wsw.com/fileadmin/datasheets/ASS_7328_CO.pdf?src-supplier=Digi-Key; ComponentLink2Description: http://www.assmann-wsw.com/fileadmin/datasheets/ASS_7328_CO.pdf?src-supplier=Digi-Key; Supplier Part Number 1: AE10395-ND
footprint RJ12_Jack_180DRC
pins: 1, 2, 3, 4, 5, 6, 7

## AF0603FR-0711K5L
designator R?, comment 11.5K
RES SMD 11.5K OHM 1% 1/10W 0603; Manufacturer: Yageo Group; Manufacturer Part Number: AF0603FR-0711K5L; Max Power Dissipation: 100mW; Value: 11.5kΩ; Temperature Coefficient: 100ppm/°C; Voltage Rating: 75V; Supplier: Arrow Electronics; Supplier Part Number: AF0603FR-0711K5L; RoHS: Compliant; Category: Chip SMD Resistors; Pricing: 5000=0,0042, 10000=0,004, 20000=0,004, 40000=0,004, 100000=0,004 (USD); Case/Package: 0603; China RoHS: Non-Compliant; Composition: Thick Film; Features: Anti-Sulfur, Moisture Resistant; Height: 450µm; Length: 1.6002mm; Lifecycle Status: Production; Max Operating Temperature: 155°C; Min Operating Temperature: -55°C; Mounting Technology: Surface Mount; Number of Terminals: 2; Number of Terminations: 2; Packaging: Tape & Reel; Power Dissipation: 100mW; Power Rating: 100mW; REACH SVHC: Yes; Tolerance: 1%; Width: 800µm; Working Voltage: 75V; ComponentLink1URL: https://datasheet.octopart.com:443/AF0603FR-0711K5L-Yageo-datasheet-182189395.pdf?src-supplier=IHS; ComponentLink1Description: https://datasheet.octopart.com:443/AF0603FR-0711K5L-Yageo-datasheet-182189395.pdf?src-supplier=IHS; ComponentLink2URL: https://datasheet.octopart.com:443/AF0603FR-0711K5L-Yageo-datasheet-153645569.pdf?src-supplier=Upverter; ComponentLink2Description: https://datasheet.octopart.com:443/AF0603FR-0711K5L-Yageo-datasheet-153645569.pdf?src-supplier=Upverter; ComponentLink3URL: https://sigma.octopart.com:443/138820526/technical_drawing/Yageo-AF0603FR-0711K5L.pdf?src-supplier=Upverter; ComponentLink3Description: https://sigma.octopart.com:443/138820526/technical_drawing/Yageo-AF0603FR-0711K5L.pdf?src-supplier=Upverter; ComponentLink4URL: https://datasheet.octopart.com:443/AF0603FR-0711K5L-Yageo-datasheet-68296209.pdf?src-supplier=Future+Electronics; ComponentLink4Description: https://datasheet.octopart.com:443/AF0603FR-0711K5L-Yageo-datasheet-68296209.pdf?src-supplier=Future+Electronics; ComponentLink5URL: https://datasheet.octopart.com:443/AF0603FR-0711K5L-Yageo-datasheet-164730775.pdf?src-supplier=Future+Electronics; ComponentLink5Description: https://datasheet.octopart.com:443/AF0603FR-0711K5L-Yageo-datasheet-164730775.pdf?src-supplier=Future+Electronics; ComponentLink6URL: https://datasheet.octopart.com:443/AF0603FR-0711K5L-Yageo-datasheet-137315688.pdf?src-supplier=Future+Electronics; ComponentLink6Description: https://datasheet.octopart.com:443/AF0603FR-0711K5L-Yageo-datasheet-137315688.pdf?src-supplier=Future+Electronics; ComponentLink7URL: https://datasheet.octopart.com:443/AF0603FR-0711K5L-Yageo-datasheet-137481464.pdf?src-supplier=Future+Electronics; ComponentLink7Description: https://datasheet.octopart.com:443/AF0603FR-0711K5L-Yageo-datasheet-137481464.pdf?src-supplier=Future+Electronics; ComponentLink8URL: http://sigma.octopart.com:80/rohs_statement/Yageo-company-2.pdf?src-supplier=Compliance+Statements; ComponentLink8Description: http://sigma.octopart.com:80/rohs_statement/Yageo-company-2.pdf?src-supplier=Compliance+Statements; ComponentLink9URL: http://sigma.octopart.com:80/conflict_mineral_statement/Yageo-company-3.pdf?src-supplier=Compliance+Statements; ComponentLink9Description: http://sigma.octopart.com:80/conflict_mineral_statement/Yageo-company-3.pdf?src-supplier=Compliance+Statements
footprint R_0603
footprint R_0603_nosılk
footprint R_0603_short_silk
pins: 1, 2

## AIMC-0805-39NJ-T
designator L?, comment 39nH
FIXED IND nH 39 300MA 650 MOHM 0805 SMD; Manufacturer: Abracon; Manufacturer Part Number: AIMC-0805-39NJ-T; Core Material: Ceramic; Tolerance: 5%; Shielding: Unshielded; Self Resonant Frequency: 1GHz; DC Resistance (DCR): 650mR; Test Frequency: 100MHz; Q Factor: 15; Supplier 1: Digi-Key; Stock 1: 9044; Pricing 1: 1 = 0,15000, 10 = 0,13400, 25 = 0,11920, 50 = 0,10120, 100 = 0,08930, 250 = 0,08184, 500 = 0,07440, 1000 = 0,06250 (USD); RoHS: Yes; Mount: Surface Mount; Case/Package: 0805; Weight: 0.000194oz; Case Code (Imperial): 0805; Case Code (Metric): 2012; Min Operating Temperature: -55°C; Max Operating Temperature: 125°C; Current Rating: 300mA; Packaging: Tape and Reel; Inductance: 39nH; Max DC Current: 300mA; Termination: SMD/SMT; Length: 0.079inch; Width: 0.049inch; Height: 0.85mm; Height - Seated (Max): 0.041inch; Lead Free: Lead Free; ComponentLink1URL: https://datasheet.ciiva.com/1079/aimc-0805-1079170.pdf?src-supplier=Digi-Key; ComponentLink1Description: https://datasheet.ciiva.com/1079/aimc-0805-1079170.pdf?src-supplier=Digi-Key; ComponentLink2URL: https://datasheet.ciiva.com/1079/aimc-0805-1079171.pdf?src-supplier=Digi-Key; ComponentLink2Description: https://datasheet.ciiva.com/1079/aimc-0805-1079171.pdf?src-supplier=Digi-Key; ComponentLink3URL: https://datasheet.ciiva.com/1079/aimc-0805-1079172.pdf?src-supplier=Digi-Key; ComponentLink3Description: https://datasheet.ciiva.com/1079/aimc-0805-1079172.pdf?src-supplier=Digi-Key; Supplier Part Number 1: 535-11565-1-ND
footprint Cap_0805
pins: 1, 2

## ALDP112W
designator RLY?
RELAY GEN PURPOSE SPST 5A 12V; Manufacturer: Panasonic Electric Works; Relay Type: General Purpose; Coil Type: Non Latching; Coil Voltage: 12VDC; Contact Form: SPST-NO (1 Form A); Switching Voltage: 277VAC - Max; Turn On Voltage (Max): 9 VDC; Turn Off Voltage (Min): 0.6 VDC; Coil Power: 200 mW; Supplier 1: Digi-Key; Manufacturer Part Number: ALDP112W; RoHS: RoHS Compliant; Category: Relays; Stock 1: 0; Pricing 1: 1=1.9, 10=1.778, 25=1.58, 50=1.501, 100=1.422, 250=1.264, 500=1.185, 1000=1.106, 5000=1.0665 (USD); Packaging: Tray; Part Status: Active; Features: -; Mounting Type: Through Hole; Termination Style: PC Pin; Operating Temperature: -40°C ~ 85°C; Contact Material: Silver Nickel (AgNi); ComponentLink1URL: https://www3.panasonic.biz/ac/e_download/control/relay/power/catalog/mech_eng_ldp.pdf; ComponentLink1Description: https://www3.panasonic.biz/ac/e_download/control/relay/power/catalog/mech_eng_ldp.pdf; Supplier Part Number 1: 255-3589-ND
footprint Relay_ALDP112W
footprint Relay_ALDP112W+PC817
pins: 1 C1, 2 C2, 3 COM, 4 NO

## ALDP124
designator RLY?
RELAY GEN PURPOSE SPST 5A 24V; Manufacturer: Panasonic; Power Rating: 200mW; Coil Resistance: 2.88kR; Switching Capacity: 1.385kW; Coil Current: 8.3mA; Coil Type: Non-Latching; Supplier 1: Digi-Key; Manufacturer Part Number: ALDP124; RoHS: Yes; Category: Power Relays; Pricing 1: 1=1,96000, 10=1,84100, 25=1,63600, 50=1,55440, 100=1,47260, 250=1,30896, 500=1,22716, 1000=1,14534, 5000=1,10444 (USD); Case/Package: 200; Number of Pins: 4; Contact Material: Silver; Min Operating Temperature: -40°C; Max Operating Temperature: 85°C; Package Quantity: 100; Contact Current Rating: 5A; Switching Current: 5A; Packaging: Carton; Throw Configuration: SPST; Coil Voltage (DC): 24V; Series: *; Contact Type: 1 maker; Length: 20.5mm; Width: 7.2mm; Height: 15.3mm; REACH SVHC: No SVHC; Lead Free: Lead Free; RoHS Compliant: No; ComponentLink1URL: https://datasheet.ciiva.com/29337/505385-da-01-en-leistungsrelais-1s-24-vdc-aldp124-29337730.pdf?src-supplier=Conrad; ComponentLink1Description: https://datasheet.ciiva.com/29337/505385-da-01-en-leistungsrelais-1s-24-vdc-aldp124-29337730.pdf?src-supplier=Conrad; ComponentLink2URL: https://datasheet.ciiva.com/18711/ds-61b10-en-ldp-18711612.pdf?src-supplier=Distrelec; ComponentLink2Description: https://datasheet.ciiva.com/18711/ds-61b10-en-ldp-18711612.pdf?src-supplier=Distrelec; ComponentLink3URL: https://datasheet.ciiva.com/1524/1537833-1524222.pdf?src-supplier=Element14; ComponentLink3Description: https://datasheet.ciiva.com/1524/1537833-1524222.pdf?src-supplier=Element14; Supplier Part Number 1: 255-6464-ND
footprint Relay_ALDP112W
pins: 1 C1, 2 C2, 3 COM, 4 NO

## AS5047P-ATSM
designator U?
ROTARY ENCODER MAGNETIC PROG; Manufacturer: ams; Detent: No; Output Type: PWM; Supplier 1: Digi-Key; Manufacturer Part Number: AS5047P-ATSM; Stock 1: 14113; Pricing 1: 1=12.23, 5=10.726, 10=9.653, 25=8.58, 50=7.9366, 100=6.864 (USD); Mount: Surface Mount; Termination: SMD/SMT; Encoder Type: Magnetic; Built in Switch: No; Lead Free: Lead Free; ComponentLink1URL: http://ams.com/eng/content/download/725051/1853902/379375?src-supplier=Digi-Key; ComponentLink1Description: http://ams.com/eng/content/download/725051/1853902/379375?src-supplier=Digi-Key; ComponentLink2URL: https://ams.com/documents/20143/36005/AS5047P_DS000324_2-00.pdf?src-supplier=Digi-Key; ComponentLink2Description: https://ams.com/documents/20143/36005/AS5047P_DS000324_2-00.pdf?src-supplier=Digi-Key; ComponentLink3URL: https://www.mouser.com/ds/2/588/AS5047P_DS000324_2-00-606067.pdf?src-supplier=Mouser; ComponentLink3Description: https://www.mouser.com/ds/2/588/AS5047P_DS000324_2-00-606067.pdf?src-supplier=Mouser; Supplier Part Number 1: AS5047P-ATSMCT-ND
footprint TSSOP14
footprint TSSOP14_magnet
pins: 1 CSn, 2 CLK, 3 MISO, 4 MOSI, 5 TEST, 6 B, 7 A, 8 W/PWM, 9 V, 10 U, 11 VDD, 12 VDD3V, 13 GND, 14 I/PWM

## ASL131212
designator TRF?, comment ASL131212/5.4VA
footprint ASL/EL38/16,3/5.4VA
pins: 1 ACIN_1, 5 ACIN_2, 6 ACOUT_4, 7 ACOUT_3, 9 ACOUT_2, 10 ACOUT_1

## ASL 101509
designator TRF?
TRANSFORMER 0.7VA 9V EI30 / 5,5 ASLAN
footprint EL30/5.5
pins: 1 220V_1, 5 220V_6, 7 AC12_1, 9 AC12_1

## ATMEGA16U2-AU
designator U?, comment ATMEGA16U2-AU-ND
IC MCU 8BIT 16KB FLASH 32TQFP; Manufacturer: Microchip Technology; Core Processor: AVR; Core Size: 8-Bit; Speed: 16MHz; Connectivity: SPI, UART/USART, USB; Peripherals: Brown-out Detect/Reset, POR, PWM, WDT; Program Memory Size: 16KB (8K x 16); EEPROM Size: 512 x 8; Voltage - Supply (Vcc/Vdd): 2.7 V ~ 5.5 V; Oscillator Type: Internal; Supplier 1: Digi-Key; Manufacturer Part Number: ATMEGA16U2-AU; RoHS: RoHS Compliant; Category: Integrated Circuits (ICs); Stock 1: 5711; Pricing 1: 1=2.57, 25=2.3624, 100=2.142 (USD); Packaging: Tray; Part Status: Active; Program Memory Type: FLASH; RAM Size: 512 x 8; Data Converters: -; Operating Temperature: -40°C ~ 85°C (TA); Package / Case: 32-TQFP; Supplier Device Package: 32-TQFP (7x7); ComponentLink1URL: http://www.atmel.com/Images/7799s.pdf; ComponentLink1Description: http://www.atmel.com/Images/7799s.pdf; Supplier Part Number 1: ATMEGA16U2-AU-ND
footprint TQFP32
pins: 1 XTAL1, 2 (PC0) XTAL2  , 3 GND, 4 VCC, 5 (PCINT11 /AIN2 ) PC2, 6 (OC.0B / INT0) PD0, 7 (AIN0 / INT1) PD1, 8 (RXD1 / AIN1 / INT2) PD2  , 9 (TXD1 / INT3) PD3  , 10 (INT5/ AIN3) PD4  , 11 (XCK AIN4 / PCINT12) PD5  , 12 (~{RTS} / AIN5 / INT6) PD6  , 13 / ~{HWB} / AIN6 / T0 / INT7) PD7  , 14 (~{SS} / PCINT0) PB0  , 15 (SCLK / PCINT1) PB1  , 16 (PDI / MOSI / PCINT2) PB2  , 17 PB3 (PDO / MISO / PCINT3)  , 18 PB4 (T1 / PCINT4)  , 19 PB5 (PCINT5), 20 PB6 (PCINT6)  , 21 PB7 (PCINT7 / OC.0A / OC.1C)  , 22 PC7 (INT4 / ICP1 / CLKO)  , 23 PC6 (OC.1A / PCINT8)  , 24 ~{Reset} (PC1 / dW)  , 25 PC5 ( PCINT9/ OC.1B)  , 26 PC4 (PCINT10)  , 27 UCAP, 28 UGND, 29 D+, 30 D-, 31 UVCC  , 32 AVCC

## ATMEGA328P-PU
designator U?, comment ATMEGA328P-PU-ND
IC MCU 8BIT 32KB FLASH 28DIP; Manufacturer: Microchip Technology; Core Processor: AVR; Core Size: 8-Bit; Speed: 20MHz; Connectivity: I²C, SPI, UART/USART; Peripherals: Brown-out Detect/Reset, POR, PWM, WDT; Program Memory Size: 32KB (16K x 16); EEPROM Size: 1K x 8; RAM Size: 2K x 8; Voltage - Supply (Vcc/Vdd): 1.8 V ~ 5.5 V; Data Converters: A/D 6x10b; Oscillator Type: Internal; Supplier 1: Digi-Key; Manufacturer Part Number: ATMEGA328P-PU; RoHS: RoHS Compliant; Category: Integrated Circuits (ICs); Stock 1: 18326; Pricing 1: 1=2.18, 25=2.0056, 100=1.8165 (USD); Packaging: Tube; Part Status: Active; Program Memory Type: FLASH; Operating Temperature: -40°C ~ 85°C (TA); Package / Case: 28-DIP (0.300", 7.62mm); Supplier Device Package: 28-PDIP; ComponentLink1URL: http://www.atmel.com/images/atmel-8271-8-bit-avr-microcontroller-atmega48a-48pa-88a-88pa-168a-168pa-328-328p_datasheet_summary.pdf; ComponentLink1Description: http://www.atmel.com/images/atmel-8271-8-bit-avr-microcontroller-atmega48a-48pa-88a-88pa-168a-168pa-328-328p_datasheet_summary.pdf; Supplier Part Number 1: ATMEGA328P-PU-ND
footprint 28_dip_7.62mm
pins: 1 PC6 (PCINT14/~{RESET}) , 2 (PCINT16/RXD) PD0 , 3 (PCINT17/TXD) PD1 , 4 (PCINT18/INT0) PD2, 5 (PCINT19/OC2B/INT1) PD3, 6 (PCINT20/XCK/T0) PD4, 7 VCC , 8 GND , 9 PB6 (PCINT6/XTAL1/TOSC1) , 10 PB7 (PCINT7/XTAL2/TOSC2) , 11 (PCINT21/OC0B/T1) PD5 , 12 (PCINT22/OC0A/AIN0) PD6 , 13 (PCINT23/AIN1) PD7 , 14 (PCINT0/CLKO/ICP1) PB0 , 15 (OC1A/PCINT1) PB1, 16 (~{SS}/OC1B/PCINT2) PB2, 17 (MOSI/OC2A/PCINT3) PB3, 18 (MISO/PCINT4) PB4, 19 (SCK/PCINT5) PB5, 20 AVCC , 21 AREF, 22 AGND, 23 (ADC0/PCINT8) PC0, 24 (ADC1/PCINT9) PC1, 25 (ADC2/PCINT10) PC2, 26 (ADC3/PCINT11) PC3, 27 (ADC4/SDA/PCINT12) PC4, 28 (ADC5/SCL/PCINT13) PC5

## B32642B6104J
designator C?
CAP FILM nF 100 630VDC 5% RADIAL; Manufacturer: TDK EPCOS; Dielectric Material: PP; Capacitance: 100nF; Voltage Rating (AC): 400V; Voltage Rating (DC): 630V; Supplier 1: Digi-Key; Manufacturer Part Number: B32642B6104J; Stock 1: 1759; Pricing 1: 1=0.83, 10=0.634, 100=0.4534, 500=0.351, 1000=0.30225, 2500=0.28275, 5000=0.26813 (USD); Mount: Through Hole; Case/Package: Radial; Min Operating Temperature: -55°C; Max Operating Temperature: 100°C; Packaging: Bulk; Termination: PC Pins; Tolerance: 5%; Length: 0.709inch; Width: 0.335inch; Height - Seated (Max): 0.571inch; Lead Pitch: 0.591inch; Supplier Part Number 1: 495-7188-ND
footprint RADIAL15MM_FILMCAPASITOR
pins: 1, 2

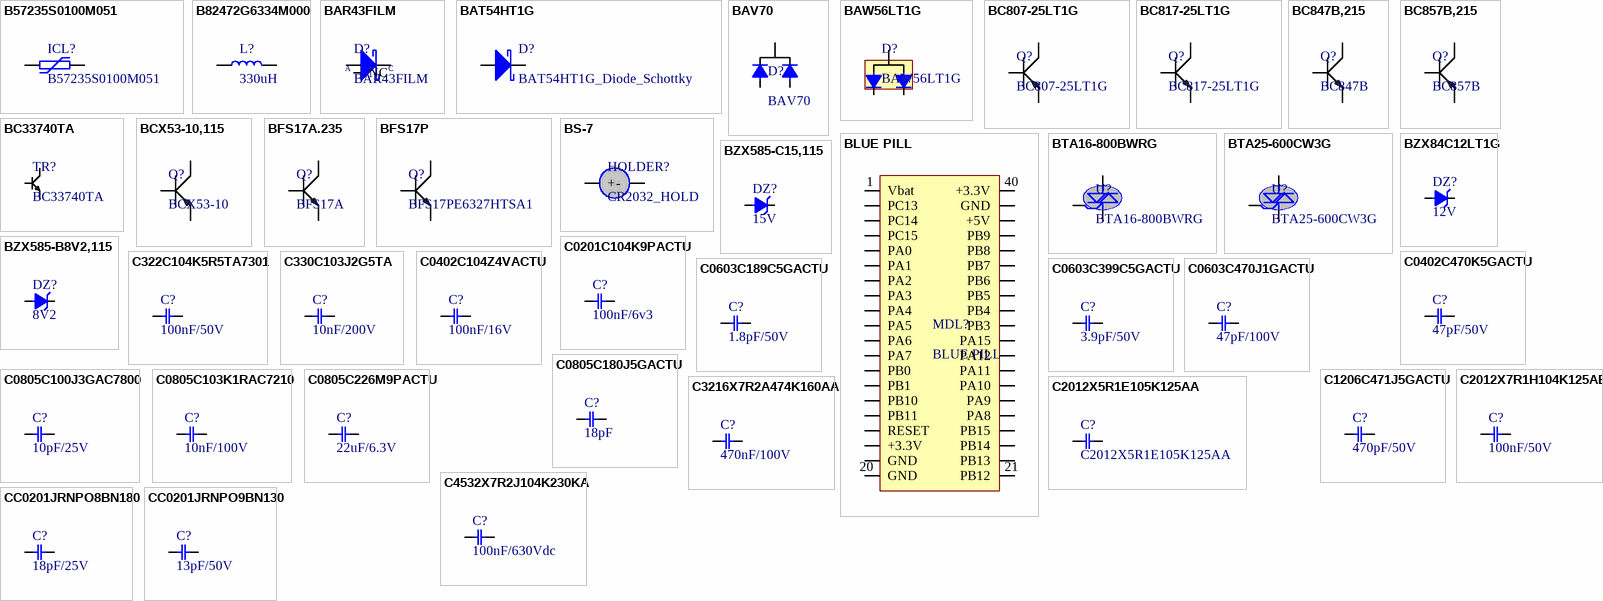
[diagram p3: symbols B57235S0100M051 to CC0201JRNPO9BN130]

## B57235S0100M051
designator ICL?
ICL 10 OHM 20% 3A 9.5MM; Manufacturer: TDK EPCOS; Supplier 1: Digi-Key; Manufacturer Part Number: B57235S0100M051; RoHS: Yes; Category: Interface ICs; Stock 1: 8774; Pricing 1: 1=1,09000, 5=1,03400, 10=0,89900, 25=0,79000, 50=0,65640, 100=0,55910, 500=0,48620 (USD); Case/Package: Radial; Number of Pins: 2; Packaging: Tape and Reel; Tolerance: 20%; Diameter: 9.5mm; Depth: 6mm; Radiation Hardening: No; ComponentLink1URL: https://datasheet.ciiva.com/26807/getdatasheetpartid-382137-26807941.pdf?src-supplier=Verical; ComponentLink1Description: https://datasheet.ciiva.com/26807/getdatasheetpartid-382137-26807941.pdf?src-supplier=Verical; Supplier Part Number 1: 495-75204-1-ND
footprint 10D201K_Varistor
pins: 1, 2

## B82472G6334M000
designator L?, comment 330uH
Inductor Power Shielded Wirewound 330uH 20% 100KHz Ferrite 330mA 1.7Ohm DCR Blister T/R; Manufacturer: TDK EPCOS; Manufacturer Part Number: B82472G6334M000; Max DC Current: 300mA; DC Resistance (DCR): 1.7R; Supplier 1: Digi-Key; Stock 1: 1390; Pricing 1: 1=1.31, 10=1.215, 100=0.8786, 500=0.67296 (USD); Case/Package: SMD/SMT; Core Material: Ferrite; Tolerance: 20%; Packaging: Tape and Reel; Shielding: Shielded; Package Quantity: 1000; Inductance: 330uH; Test Frequency: 100kHz; DC Current: 330mA; Military Standard: Not; Current Rating: 330mA; Termination: SMD/SMT; Length: 7.3mm; Height: 4.5mm; Width: 7.3mm; Depth: 7.5mm; Supplier Part Number 1: 495-5680-6-ND
footprint Inductor_7.3x7.3mm
pins: 1, 2